# EAGLE library part 691317410006 (library Wuerth_Elektronik_eiCan_Terminal_Blocks_v2.0)
WR - TBL Serie 3174 - 7.62mm Reversed Gender Horizontal PCB Header with Flanges, 6 pins
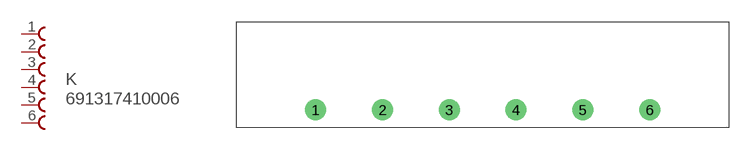
[diagram p202: symbol with the pads of 691317410006; footprint 691317410006]

Designator prefix K

## 691317410006  [691317410006]
1  1  pas
2  2  pas
3  3  pas
4  4  pas
5  5  pas
6  6  pas

## Footprint 691317410006 (pad centres in mm)
WR - TBL Serie 3174 - 7.62mm Reversed Gender Horizontal PCB Header with Flanges, 6 pins
drill 1.6 round: 1 -22.86,0; 2 -15.24,0; 3 -7.62,0; 4 0,0; 5 7.62,0; 6 15.24,0